# Altium footprint library 6473427-1.PcbLib: 1 footprints
Each footprint in its own frame and in the unit in brackets; x right, y up, seen from the top. Pads: shape width x height; smd on the part's side, far side on the other; paste and mask are expansions set on the pad; w line width, h text height; cw(c..) or ccw(c..) is an arc to the next point about the centre after c.
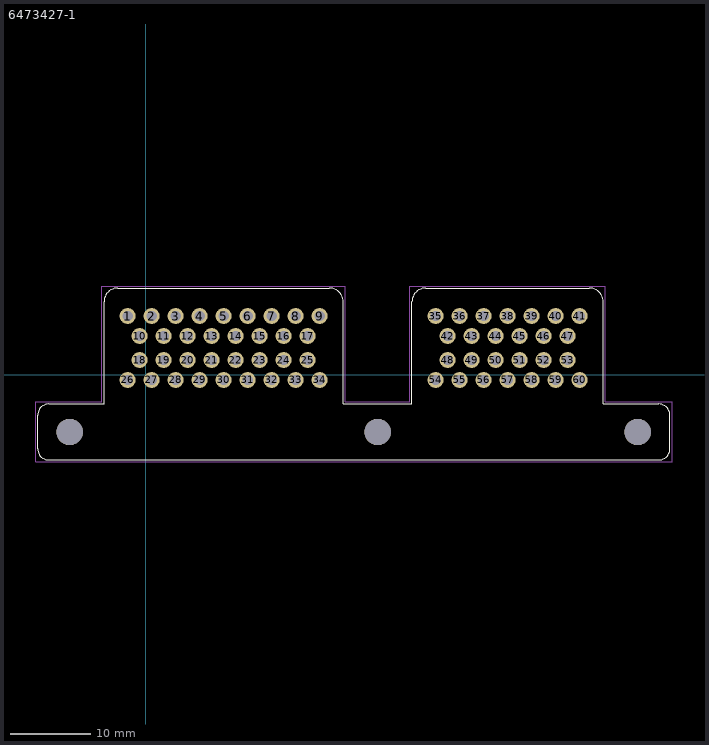
[diagram p0: the footprint, top view; thin cyan lines are the x and y axes]

## 6473427-1 [mm]
pads (63):
  round 2 hole 1.3: 1(-2.275,7.375) 2(0.725,7.375) 3(3.725,7.375) 4(6.725,7.375) 5(9.725,7.375) 6(12.725,7.375) 7(15.725,7.375) 8(18.725,7.375) 9(21.725,7.375) 10(-0.775,4.875) 11(2.225,4.875) 12(5.225,4.875) 13(8.225,4.875) 14(11.225,4.875) 15(14.225,4.875) 16(17.225,4.875) 17(20.225,4.875) 18(-0.775,1.875) 19(2.225,1.875) 20(5.225,1.875) 21(8.225,1.875) 22(11.225,1.875) 23(14.225,1.875) 24(17.225,1.875) 25(20.225,1.875) 26(-2.275,-0.625) 27(0.725,-0.625) 28(3.725,-0.625) 29(6.725,-0.625) 30(9.725,-0.625) 31(12.725,-0.625) 32(15.725,-0.625) 33(18.725,-0.625) 34(21.725,-0.625) 35(36.225,7.375) 36(39.225,7.375) 37(42.225,7.375) 38(45.225,7.375) 39(48.225,7.375) 40(51.225,7.375) 41(54.225,7.375) 42(37.725,4.875) 43(40.725,4.875) 44(43.725,4.875) 45(46.725,4.875) 46(49.725,4.875) 47(52.725,4.875) 48(37.725,1.875) 49(40.725,1.875) 50(43.725,1.875) 51(46.725,1.875) 52(49.725,1.875) 53(52.725,1.875) 54(36.225,-0.625) 55(39.225,-0.625) 56(42.225,-0.625) 57(45.225,-0.625) 58(48.225,-0.625) 59(51.225,-0.625) 60(54.225,-0.625)
  round 3.3 hole 3.3 unplated: ""(-9.525,-7.125) ""(28.975,-7.125) ""(61.475,-7.125)
Top Overlay:
  lines w0.1: -13.525,-9.225 ccw(c-12.125,-9.225) -12.125,-10.625 -9.525,-10.625 -6.525,-10.625 64.125,-10.625 ccw(c64.125,-9.225) 65.525,-9.225 65.525,-5.025 ccw(c64.125,-5.025) 64.125,-3.625 57.175,-3.625 57.175,9.15 ccw(c55.45,9.15) 55.45,10.875 35,10.875 ccw(c35,9.15) 33.275,9.15 33.275,-3.625 24.675,-3.625 24.675,9.15 ccw(c22.95,9.15) 22.95,10.875 -3.5,10.875 ccw(c-3.5,9.15) -5.225,9.15 -5.225,-3.625 -6.525,-3.625 -9.525,-3.625 -12.125,-3.625 ccw(c-12.125,-5.025) -13.525,-5.025 -13.525,-7.125 -13.525,-9.225
Mechanical 7:
  lines w0.1: -13.75,-10.875 65.8,-10.875 65.8,-3.375 57.45,-3.375 57.45,11.125 33.025,11.125 33.025,-3.375 24.95,-3.375 24.95,11.125 -5.5,11.125 -5.5,-3.375 -13.75,-3.375 -13.75,-10.875
Mechanical 9:
  text "'.Designator'" at 18.02,-12.429 h1
3D body "c-6473427-1-d-3d.stp": height 28.45, standoff -3.7, extent -13.05,-26.6 64.95,9.9
3D body: height 1.04, standoff 0, extent -13.75,-10.875 65.8,11.125